# Altium schematic symbol library MCU Module V1.1.SCHLIB: 13 symbols
Pins are listed as number, name and electrical type; pins without a type are passive.

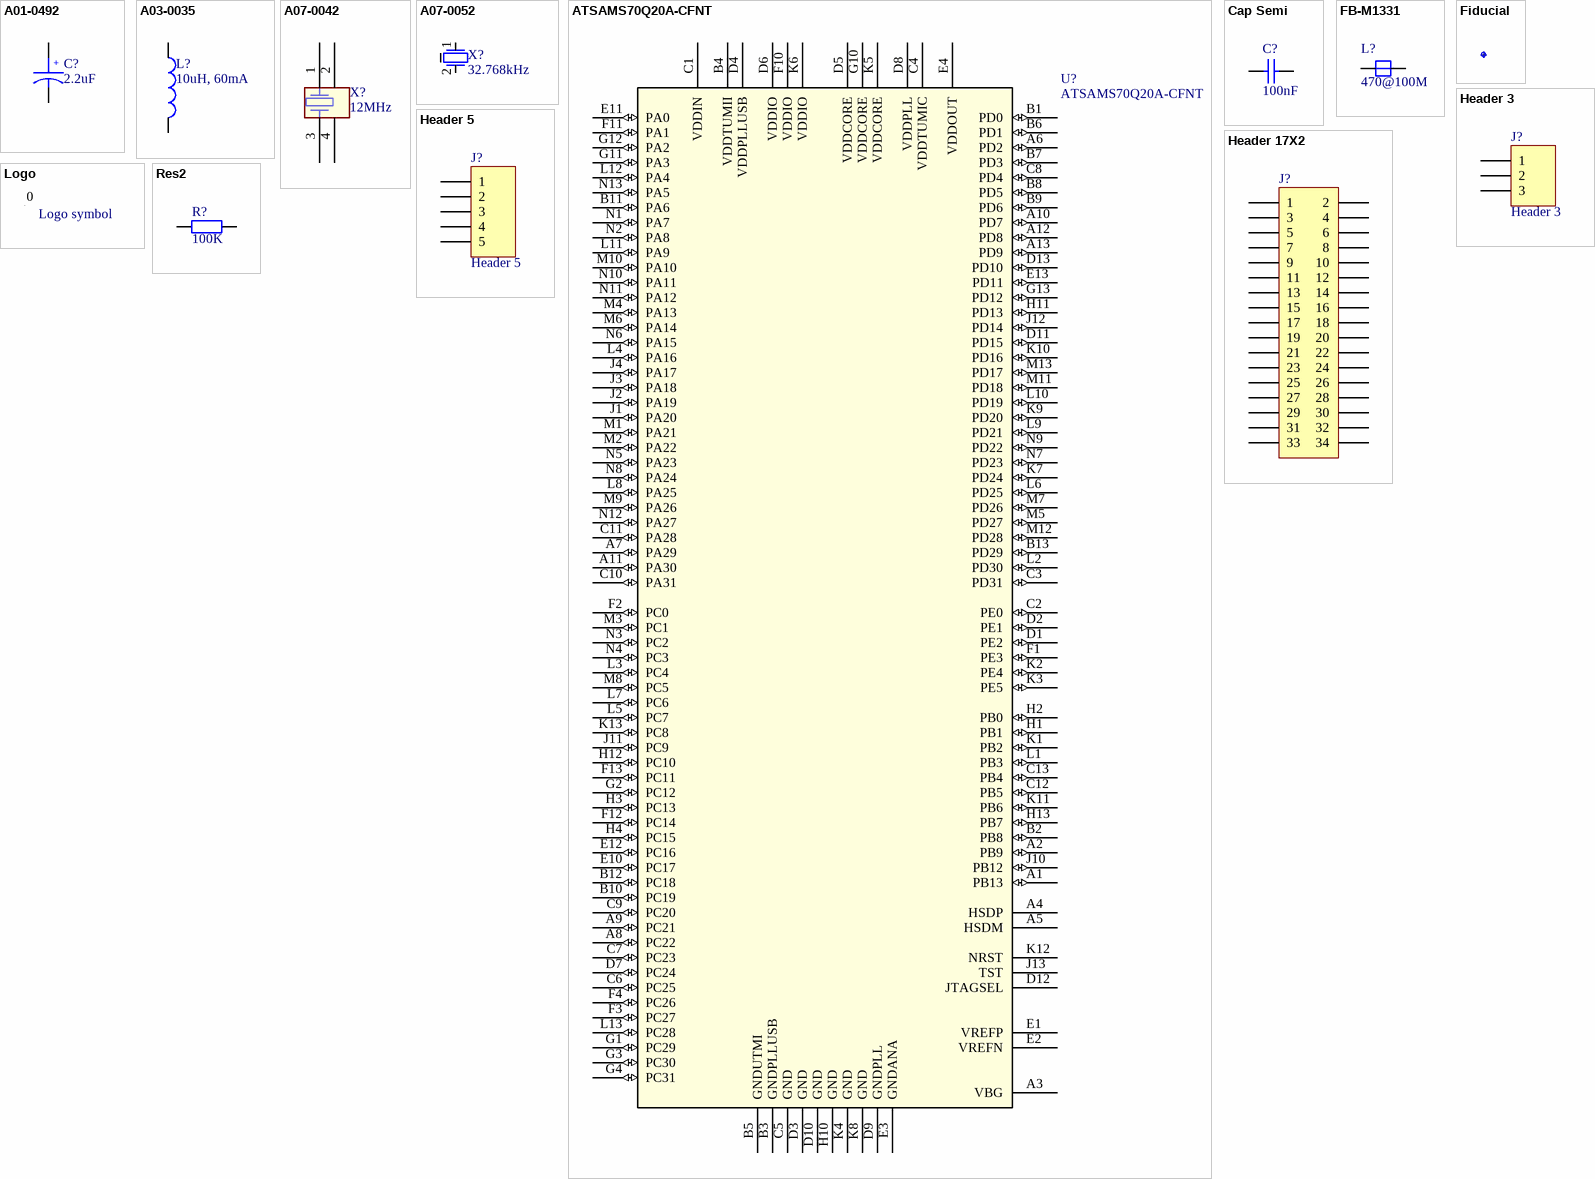
[diagram p0: symbols A01-0492 to Res2]

## A01-0492
designator C?, comment 2.2uF
Capacitor Tantalum 10V 2.2uF 10% ESR = 6 ohm; PartGroup: Capacitors,Tantalum; Manufacturer: Kemet; MPN: T494A225K010AT; AN: A01-0492; TemperatureRange: - 55 C to + 125 C; Value: 2.2uF; Tolerance: ±10%; Height: 1,79999995231628
footprint C_TAN_1206_3216METRIC (SMD capacitors: 3216-18 EIA Case 1206, polarized)
pins: 1, 2
text: +

## A03-0035
designator L?, comment 10uH, 60mA
FIXED IND 10UH 60MA 700 MOHM SMD; PartGroup: Inductors,EMI; Manufacturer: Murata; MPN: BLM18PG471SN1; AN: A03-0035; TemperatureRange: -55; Value: 10uH, 60mA; Height: 0,800000011920929
footprint L_0603_1608Metric
pins: 1, 2

## A07-0042
designator X?, comment 12MHz
CRYSTAL 12.0000MHZ 18PF SMD; PartGroup: Frequency devices,Crystals,SMD; Manufacturer: Fox  Electronics; MPN: FQ5032B-12.000; AN: A07-0042; Value: 12.00MHz; Tolerance: Â±30ppm; TemperatureRange: 0Â°C ~ 70Â°C; Height: 1,20000004768372
footprint CRY-3225
pins: 1, 2, 3, 4

## A07-0052
designator X?, comment 32.768kHz
CRYSTAL 32.7680KHZ 12.5PF SMD; PartGroup: Frequency devices,Crystals,SMD; Manufacturer: Micro Crystal; MPN: MS1V-T1K 32.768kHz 7pF +/-20PPM TA; AN: A07-0052; Tolerance: +/- 20 PPM; TemperatureRange: -40 /+85; Value: 32.768kHz; Height: 2,07999992370605
footprint Crystal 1.8x6mmm
pins: 1, 2

## ATSAMS70Q20A-CFNT
designator U?
32-bit ARM Cortex-M7 MCUs with FPU, Audio andGraphics Interfaces, High-Speed USB, Ethernet, andAdvanced Analog; Manufacturer_Part_Number: ATSAMS70Q20A-CNT; Vendor: Microchip; Built_By: EMA_Molly; SourceLibrary: Microchip_2019-08-23_25; Copyright: Copyright (C) 2018 Accelerated Designs. All rights reserved; RefDes: RefDes; Type: DEV
footprint UFBGA144(6x6mm) (BGA, 144-Leads, Body 6.00x6.00mmx0.60mm, Pitch 0.40mm)
pins: A1 PB13 (io), A2 PB9 (io), A3 VBG, A4 HSDP, A5 HSDM, A6 PD2 (io), A7 PA29 (io), A8 PC22 (io), A9 PC21 (io), A10 PD7 (io), A11 PA30 (io), A12 PD8 (io), A13 PD9 (io), B1 PD0 (io), B2 PB8 (io), B3 GNDPLLUSB, B4 VDDTUMII (power), B5 GNDUTMI, B6 PD1 (io), B7 PD3 (io), B8 PD5 (io), B9 PD6 (io), B10 PC19 (io), B11 PA6 (io), B12 PC18 (io), B13 PD29 (io), C1 VDDIN (power), C2 PE0 (io), C3 PD31 (io), C4 VDDTUMIC (power), C5 GND, C6 PC25 (io), C7 PC23 (io), C8 PD4 (io), C9 PC20 (io), C10 PA31 (io), C11 PA28 (io), C12 PB5 (io), C13 PB4 (io), D1 PE2 (io), D2 PE1 (io), D3 GND, D4 VDDPLLUSB (power), D5 VDDCORE (power), D6 VDDIO (power), D7 PC24 (io), D8 VDDPLL (power), D9 GNDPLL, D10 GND, D11 PD15 (io), D12 JTAGSEL, D13 PD10 (io), E1 VREFP, E2 VREFN, E3 GNDANA, E4 VDDOUT (power), E10 PC17 (io), E11 PA0 (io), E12 PC16 (io), E13 PD11 (io), F1 PE3 (io), F2 PC0 (io), F3 PC27 (io), F4 PC26 (io), F10 VDDIO (power), F11 PA1 (io), F12 PC14 (io), F13 PC11 (io), G1 PC29 (io), G2 PC12 (io), G3 PC30 (io), G4 PC31 (io), G10 VDDCORE (power), G11 PA3 (io), G12 PA2 (io), G13 PD12 (io), H1 PB1 (io), H2 PB0 (io), H3 PC13 (io), H4 PC15 (io), H10 GND, H11 PD13 (io), H12 PC10 (io), H13 PB7 (io), J1 PA20 (io), J2 PA19 (io), J3 PA18 (io), J4 PA17 (io), J10 PB12 (io), J11 PC9 (io), J12 PD14 (io), J13 TST, K1 PB2 (io), K2 PE4 (io), K3 PE5 (io), K4 GND, K5 VDDCORE (power), K6 VDDIO (power), K7 PD24 (io), K8 GND, K9 PD20 (io), K10 PD16 (io), K11 PB6 (io), K12 NRST, K13 PC8 (io), L1 PB3 (io), L2 PD30 (io), L3 PC4 (io), L4 PA16 (io), L5 PC7 (io), L6 PD25 (io), L7 PC6 (io), L8 PA25 (io), L9 PD21 (io), L10 PD19 (io), L11 PA9 (io), L12 PA4 (io), L13 PC28 (io), M1 PA21 (io), M2 PA22 (io), M3 PC1 (io), M4 PA13 (io), M5 PD27 (io), M6 PA14 (io), M7 PD26 (io), M8 PC5 (io), M9 PA26 (io), M10 PA10 (io), M11 PD18 (io), M12 PD28 (io), M13 PD17 (io), N1 PA7 (io), N2 PA8 (io), N3 PC2 (io), N4 PC3 (io), N5 PA23 (io), N6 PA15 (io), N7 PD23 (io), N8 PA24 (io), N9 PD22 (io), N10 PA11 (io), N11 PA12 (io), N12 PA27 (io), N13 PA5 (io)

## Cap Semi
designator C?, comment 100nF
CAP CER 0.1UF 25V X7R 0805; Published: 8-Jun-2000; LatestRevisionDate: 29-May-2009; LatestRevisionNote: IPC-7351 Footprint Added.; PackageReference: C1206; Publisher: Altium Limited; PackageDescription: Chip Capacitor
simulation model CAP (Semiconductor Capacitor)
signal-integrity model Cap Semi
footprint C_0805_2012Metric
pins: 1, 2

## FB-M1331
designator L?, comment 470@100M
FERRITE BEAD 470 OHM 0603 1LN; GateName_1: G$1; SymbolName_1: FB; DeviceName: -M1331; LibraryName: inductors-jwmiller; DeviceSetName: FB
footprint L_0603_1608Metric
pins: 1, 2

## Fiducial
designator Fid?, comment Fiducial mark  (value not drawn)  (no BOM)
Part Number: Fid-Mark; Artikkelnr Noca: N.A.; Manufacturer: *; Manufacturer Part Number: *; Datasheet: *; LatestRevisionDate: 2009-12-12; Pin Count: 1; Publisher: Nordic Semiconductor; Published: 2009-12-12; Value: *; Note: *; Supplier: *; Supplier part number: *; 2nd source Supplier: *; 2nd source part number: *; Footprint Doc: Fiducial; Artikkelnr Simpro: N.A.
footprint Fiducial
footprint Fiducial_1mm_Mask2mm

## Header 3
designator J?
Header, 3-Pin; LatestRevisionDate: 17-Jul-2002; LatestRevisionNote: Re-released for DXP Platform.; Publisher: Altium Limited
signal-integrity model Connector
footprint PinHeader_1x03_P2.54mm_Vertical
pins: 1, 2, 3

## Header 5
designator J?
CONN HEADER VERT 5POS 2MM; LatestRevisionDate: 17-Jul-2002; LatestRevisionNote: Re-released for DXP Platform.; Publisher: Altium Limited
signal-integrity model Connector
footprint PinHeader_1x05_P2.54mm_Vertical
pins: 1, 2, 3, 4, 5

## Header 17X2
designator J?  (value not drawn)
Header, 17-Pin, Dual row; LatestRevisionDate: 17-Jul-2002; LatestRevisionNote: Re-released for DXP Platform.; Publisher: Altium Limited
signal-integrity model Connector
footprint HDR-TH_34P-P2.00-V-M-R2-C17-S2.00 - MALE
pins: 1, 2, 3, 4, 5, 6, 7, 8, 9, 10, 11, 12, 13, 14, 15, 16, 17, 18, 19, 20, 21, 22, 23, 24, 25, 26, 27, 28, 29, 30, 31, 32, 33, 34

## Logo
designator Logo Top??, comment Logo symbol
Schematic symbol for Logo
footprint WEEE-Logo_4.2x6mm_SilkScreen
pins: 0 "Logo"

## Res2
designator R?, comment 100K
RES 100K OHM 5% 1/8W 0805; Published: 8-Jun-2000; LatestRevisionDate: 17-Jul-2002; LatestRevisionNote: Re-released for DXP Platform.; PackageReference: AXIAL-0.4; Publisher: Altium Limited; PackageDescription: Axial Device, Thru-Hole; 2 Leads; 0.4 in Pin Spacing
simulation model RESISTOR (Resistor)
signal-integrity model Res
footprint R_0805_2012Metric
pins: 1, 2